# Altium integrated library ON Semi Logic Gate.IntLib: 342 symbols (part 2 of 7)
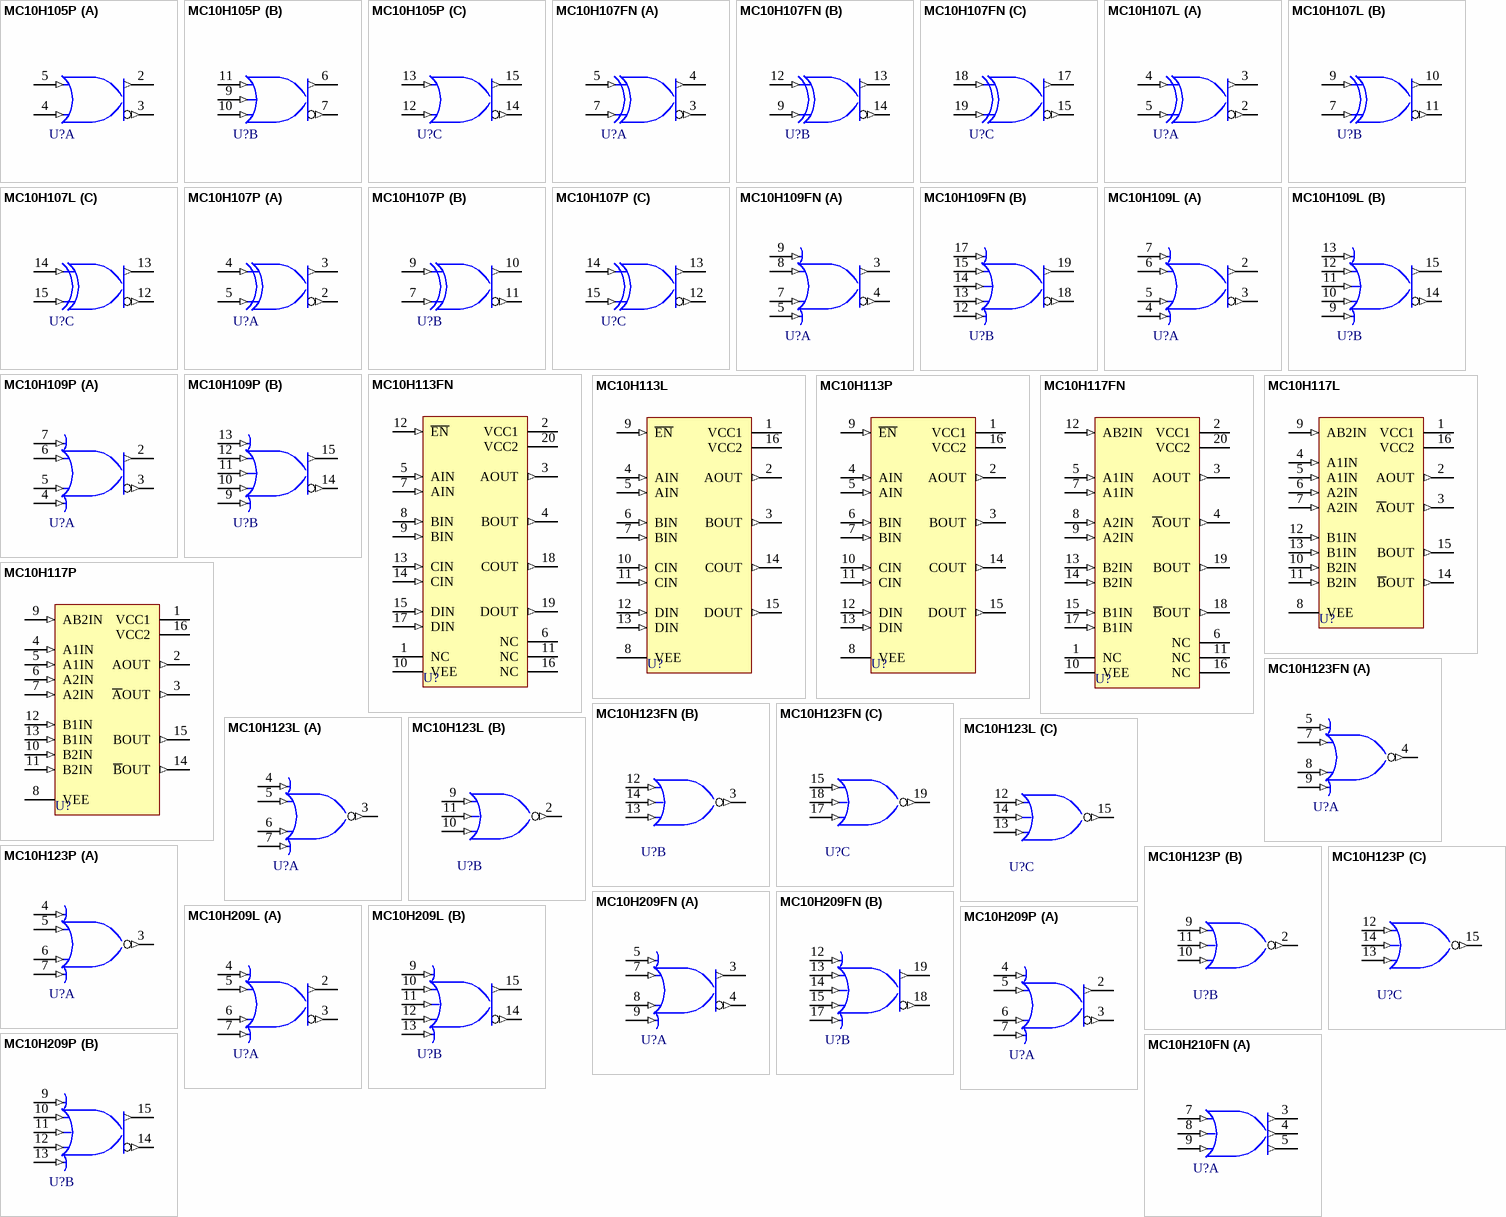
[diagram p27: symbols MC10H105P to MC10H210FN]

## MC10H209P
designator U?
Dual 4-5-Input OR/NOR Gate; Published: 15-Apr-2002; DatasheetVersion: 1996; PackageVersion: Apr-2000; PackageReference: 648-08; Publisher: Altium Limited; PackageDescription: DIP; 16 Leads; Row Spacing 7.62 mm; Pitch 2.54 mm; Code_JEDEC: MS-001-BB; ComponentLink1Description: Manufacturer Link; ComponentLink1URL: http://www.onsemi.com/; ComponentLink2Description: Datasheet; ComponentLink2URL: http://www.onsemi.com/pub/Collateral/MC10H209-D.PDF
footprint 648-08 (DIP; 16 Leads; Row Spacing 7.62 mm; Pitch 2.54 mm)
pins on every part: 1 VCC1 (power) hidden to VCC1, 8 VEE (power) hidden to VEE, 16 VCC2 (power) hidden to VCC2
part A pins: 2 Y (out), 3 ~{Y} (out), 4 A (in), 5 B (in), 6 C (in), 7 D (in)
part B pins: 9 A (in), 10 B (in), 11 C (in), 12 D (in), 13 E (in), 14 ~{Y} (out), 15 Y (out)

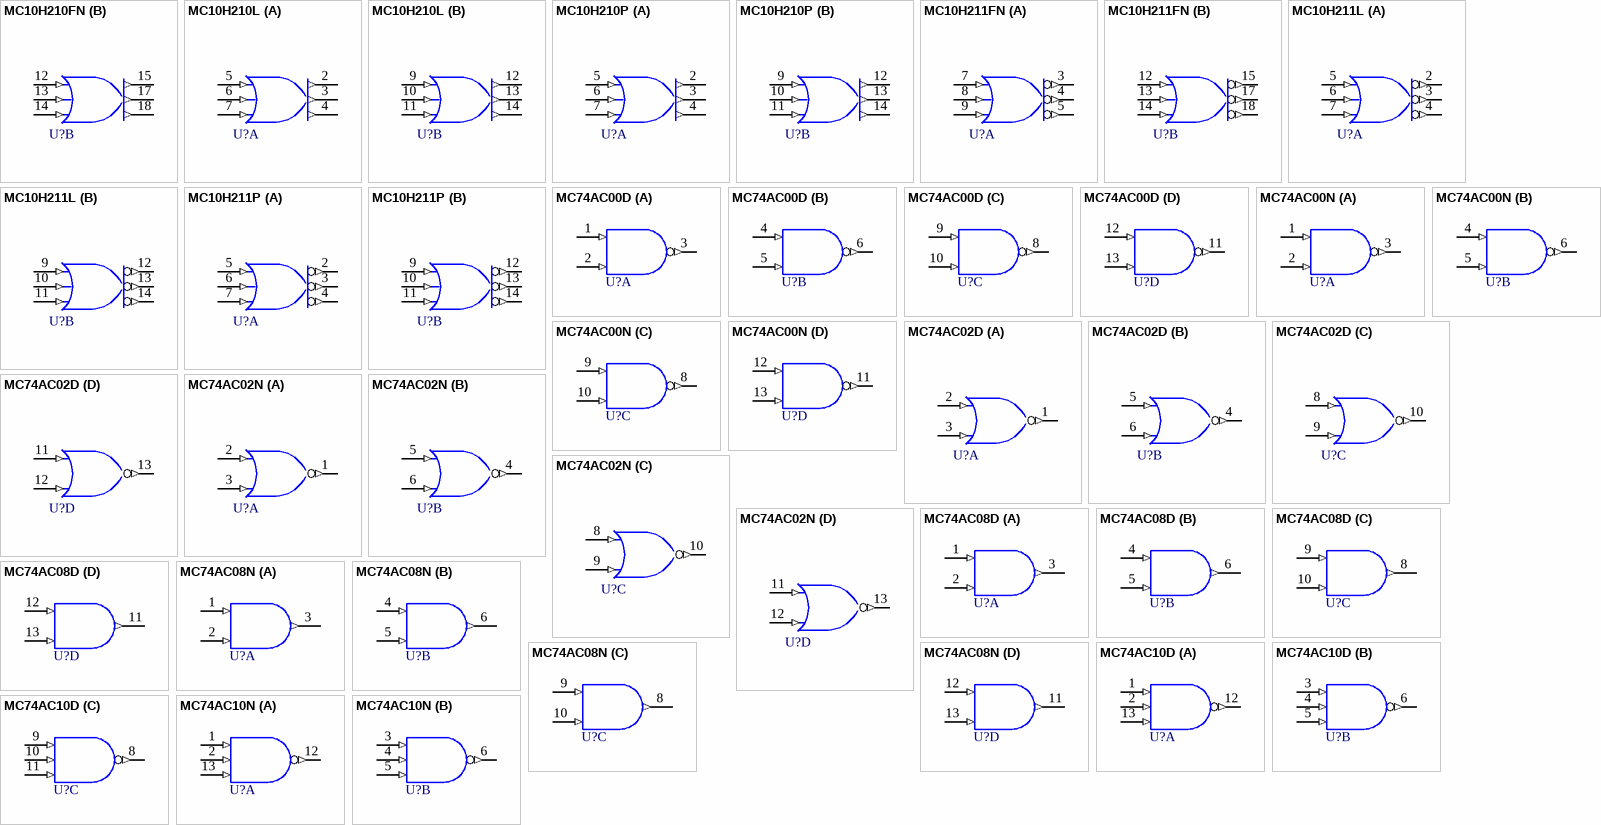
[diagram p3: symbols MC10H210FN to MC74AC10N]

## MC10H210FN
designator U?
Dual 3-Input 3-Output OR Gate; Note: NC Pins are pins 1, 6, 11, 16 and not drawn.; Published: 15-Apr-2002; LatestRevisionDate: 13-Apr-2006; LatestRevisionNote: IPC-7351 Footprint Added.; DatasheetVersion: 1996; PackageVersion: 1996; PackageReference: 775-02; Publisher: Altium Limited; PackageDescription: 20-Pin Leaded Chip Carrier 1.27 mm Pitch; ComponentLink1Description: Manufacturer Link; ComponentLink1URL: http://www.onsemi.com/; ComponentLink2Description: Datasheet; ComponentLink2URL: http://www.onsemi.com/pub/Collateral/MC10H210-D.PDF
footprint 775-02_N (Leaded Chip Carrier, 20-Leads, Body 9x9mm, Pitch 1.27mm, IPC Medium Density)
footprint 775-02_L (Leaded Chip Carrier, 20-Leads, Body 9x9mm, Pitch 1.27mm, IPC High Density)
footprint 775-02_M (Leaded Chip Carrier, 20-Leads, Body 9x9mm, Pitch 1.27mm, IPC Low Density)
pins on every part: 2 VCC1 (power) hidden to VCC1, 10 VEE (power) hidden to VEE, 19 VCC1 (power) hidden to VCC1, 20 VCC2 (power) hidden to VCC2
part A pins: 3 Y (out), 4 Y (out), 5 Y (out), 7 A (in), 8 B (in), 9 C (in)
part B pins: 12 A (in), 13 B (in), 14 C (in), 15 Y (out), 17 Y (out), 18 Y (out)

## MC10H210L
designator U?
Dual 3-Input 3-Output OR Gate; Published: 15-Apr-2002; DatasheetVersion: 1996; PackageVersion: 1996; PackageReference: 620-10; Publisher: Altium Limited; PackageDescription: DIP; 16 Leads; Row Spacing 7.62 mm; Pitch 2.54 mm; ComponentLink1Description: Manufacturer Link; ComponentLink1URL: http://www.onsemi.com/; ComponentLink2Description: Datasheet; ComponentLink2URL: http://www.onsemi.com/pub/Collateral/MC10H210-D.PDF
footprint 620-10 (DIP; 16 Leads; Row Spacing 7.62 mm; Pitch 2.54 mm)
pins on every part: 1 VCC1 (power) hidden to VCC1, 8 VEE (power) hidden to VEE, 15 VCC1 (power) hidden to VCC1, 16 VCC2 (power) hidden to VCC2
part A pins: 2 Y (out), 3 Y (out), 4 Y (out), 5 A (in), 6 B (in), 7 C (in)
part B pins: 9 A (in), 10 B (in), 11 C (in), 12 Y (out), 13 Y (out), 14 Y (out)

## MC10H210P
designator U?
Dual 3-Input 3-Output OR Gate; Published: 15-Apr-2002; DatasheetVersion: 1996; PackageVersion: Apr-2000; PackageReference: 648-08; Publisher: Altium Limited; PackageDescription: DIP; 16 Leads; Row Spacing 7.62 mm; Pitch 2.54 mm; Code_JEDEC: MS-001-BB; ComponentLink1Description: Manufacturer Link; ComponentLink1URL: http://www.onsemi.com/; ComponentLink2Description: Datasheet; ComponentLink2URL: http://www.onsemi.com/pub/Collateral/MC10H210-D.PDF
footprint 648-08 (DIP; 16 Leads; Row Spacing 7.62 mm; Pitch 2.54 mm)
pins on every part: 1 VCC1 (power) hidden to VCC1, 8 VEE (power) hidden to VEE, 15 VCC1 (power) hidden to VCC1, 16 VCC2 (power) hidden to VCC2
part A pins: 2 Y (out), 3 Y (out), 4 Y (out), 5 A (in), 6 B (in), 7 C (in)
part B pins: 9 A (in), 10 B (in), 11 C (in), 12 Y (out), 13 Y (out), 14 Y (out)

## MC10H211FN
designator U?
Dual 3-Input 3-Output NOR Gate; Note: NC Pins are pins 1, 6, 11, 16 and not drawn.; Published: 15-Apr-2002; LatestRevisionDate: 13-Apr-2006; LatestRevisionNote: IPC-7351 Footprint Added.; DatasheetVersion: 1996; PackageVersion: 1996; PackageReference: 775-02; Publisher: Altium Limited; PackageDescription: 20-Pin Leaded Chip Carrier 1.27 mm Pitch; ComponentLink1Description: Manufacturer Link; ComponentLink1URL: http://www.onsemi.com/; ComponentLink2Description: Datasheet; ComponentLink2URL: http://www.onsemi.com/pub/Collateral/MC10H211-D.PDF
footprint 775-02_N (Leaded Chip Carrier, 20-Leads, Body 9x9mm, Pitch 1.27mm, IPC Medium Density)
footprint 775-02_L (Leaded Chip Carrier, 20-Leads, Body 9x9mm, Pitch 1.27mm, IPC High Density)
footprint 775-02_M (Leaded Chip Carrier, 20-Leads, Body 9x9mm, Pitch 1.27mm, IPC Low Density)
pins on every part: 2 VCC1 (power) hidden to VCC1, 10 VEE (power) hidden to VEE, 19 VCC1 (power) hidden to VCC1, 20 VCC2 (power) hidden to VCC2
part A pins: 3 ~{Y} (out), 4 ~{Y} (out), 5 ~{Y} (out), 7 A (in), 8 B (in), 9 C (in)
part B pins: 12 A (in), 13 B (in), 14 C (in), 15 ~{Y} (out), 17 ~{Y} (out), 18 ~{Y} (out)

## MC10H211L
designator U?
Dual 3-Input 3-Output NOR Gate; Published: 15-Apr-2002; DatasheetVersion: 1996; PackageVersion: 1996; PackageReference: 620-10; Publisher: Altium Limited; PackageDescription: DIP; 16 Leads; Row Spacing 7.62 mm; Pitch 2.54 mm; ComponentLink1Description: Manufacturer Link; ComponentLink1URL: http://www.onsemi.com/; ComponentLink2Description: Datasheet; ComponentLink2URL: http://www.onsemi.com/pub/Collateral/MC10H211-D.PDF
footprint 620-10 (DIP; 16 Leads; Row Spacing 7.62 mm; Pitch 2.54 mm)
pins on every part: 1 VCC1 (power) hidden to VCC1, 8 VEE (power) hidden to VEE, 15 VCC1 (power) hidden to VCC1, 16 VCC2 (power) hidden to VCC2
part A pins: 2 ~{Y} (out), 3 ~{Y} (out), 4 ~{Y} (out), 5 A (in), 6 B (in), 7 C (in)
part B pins: 9 A (in), 10 B (in), 11 C (in), 12 ~{Y} (out), 13 ~{Y} (out), 14 ~{Y} (out)

## MC10H211P
designator U?
Dual 3-Input 3-Output NOR Gate; Published: 15-Apr-2002; DatasheetVersion: 1996; PackageVersion: Apr-2000; PackageReference: 648-08; Publisher: Altium Limited; PackageDescription: DIP; 16 Leads; Row Spacing 7.62 mm; Pitch 2.54 mm; Code_JEDEC: MS-001-BB; ComponentLink1Description: Manufacturer Link; ComponentLink1URL: http://www.onsemi.com/; ComponentLink2Description: Datasheet; ComponentLink2URL: http://www.onsemi.com/pub/Collateral/MC10H211-D.PDF
footprint 648-08 (DIP; 16 Leads; Row Spacing 7.62 mm; Pitch 2.54 mm)
pins on every part: 1 VCC1 (power) hidden to VCC1, 8 VEE (power) hidden to VEE, 15 VCC1 (power) hidden to VCC1, 16 VCC2 (power) hidden to VCC2
part A pins: 2 ~{Y} (out), 3 ~{Y} (out), 4 ~{Y} (out), 5 A (in), 6 B (in), 7 C (in)
part B pins: 9 A (in), 10 B (in), 11 C (in), 12 ~{Y} (out), 13 ~{Y} (out), 14 ~{Y} (out)

## MC74AC00D
designator U?
Quad 2-Input NAND Gate; Published: 15-Apr-2002; LatestRevisionDate: 13-Apr-2006; LatestRevisionNote: IPC-7351 Footprint Added.; DatasheetVersion: 9-Apr-1996; PackageReference: 751A-03; Publisher: Altium Limited; PackageDescription: 14-Pin Small Outline Integrated Circuit 1.27 mm Pitch; Code_JEDEC: MS-012-AB; Code_IPC: SOIC127P600-14; ComponentLink1Description: Manufacturer Link; ComponentLink1URL: http://www.onsemi.com/; ComponentLink2Description: Datasheet; ComponentLink2URL: http://www.onsemi.com/pub/Collateral/MC74AC00-D.PDF
footprint 751A-03_N (SOIC, 14-Leads, Body 8.7x3.9mm, Pitch 1.27mm, IPC Medium Density)
footprint 751A-03_L (SOIC, 14-Leads, Body 8.7x3.9mm, Pitch 1.27mm, IPC High Density)
footprint 751A-03_M (SOIC, 14-Leads, Body 8.7x3.9mm, Pitch 1.27mm, IPC Low Density)
signal-integrity model MC74AC00D
pins on every part: 7 GND (power) hidden to GND, 14 VCC (power) hidden to VCC
part A pins: 1 A (in), 2 B (in), 3 ~{Y} (out)
part B pins: 4 A (in), 5 B (in), 6 ~{Y} (out)
part C pins: 8 ~{Y} (out), 9 A (in), 10 B (in)
part D pins: 11 ~{Y} (out), 12 A (in), 13 B (in)

## MC74AC00N
designator U?
Quad 2-Input NAND Gate; Published: 15-Apr-2002; DatasheetVersion: 9-Apr-1996; PackageVersion: 1995; PackageReference: 646-06; Publisher: Altium Limited; PackageDescription: DIP; 14 Leads; Row Spacing 7.62 mm; Pitch 2.54 mm; ComponentLink1Description: Manufacturer Link; ComponentLink1URL: http://www.onsemi.com/; ComponentLink2Description: Datasheet; ComponentLink2URL: http://www.onsemi.com/pub/Collateral/MC74AC00-D.PDF
footprint 646-06 (DIP; 14 Leads; Row Spacing 7.62 mm; Pitch 2.54 mm)
signal-integrity model MC74AC00N
pins on every part: 7 GND (power) hidden to GND, 14 VCC (power) hidden to VCC
part A pins: 1 A (in), 2 B (in), 3 ~{Y} (out)
part B pins: 4 A (in), 5 B (in), 6 ~{Y} (out)
part C pins: 8 ~{Y} (out), 9 A (in), 10 B (in)
part D pins: 11 ~{Y} (out), 12 A (in), 13 B (in)

## MC74AC02D
designator U?
Quad 2-Input NOR Gate; Published: 15-Apr-2002; LatestRevisionDate: 13-Apr-2006; LatestRevisionNote: IPC-7351 Footprint Added.; DatasheetVersion: 9-Apr-1996; PackageReference: 751A-03; Publisher: Altium Limited; PackageDescription: 14-Pin Small Outline Integrated Circuit 1.27 mm Pitch; Code_JEDEC: MS-012-AB; Code_IPC: SOIC127P600-14; ComponentLink1Description: Manufacturer Link; ComponentLink1URL: http://www.onsemi.com/; ComponentLink2Description: Datasheet; ComponentLink2URL: http://www.onsemi.com/pub/Collateral/MC74AC02-D.PDF
footprint 751A-03_N (SOIC, 14-Leads, Body 8.7x3.9mm, Pitch 1.27mm, IPC Medium Density)
footprint 751A-03_L (SOIC, 14-Leads, Body 8.7x3.9mm, Pitch 1.27mm, IPC High Density)
footprint 751A-03_M (SOIC, 14-Leads, Body 8.7x3.9mm, Pitch 1.27mm, IPC Low Density)
signal-integrity model MC74AC02D
pins on every part: 7 GND (power) hidden to GND, 14 VCC (power) hidden to VCC
part A pins: 1 ~{Y} (out), 2 A (in), 3 B (in)
part B pins: 4 ~{Y} (out), 5 A (in), 6 B (in)
part C pins: 8 A (in), 9 B (in), 10 ~{Y} (out)
part D pins: 11 A (in), 12 B (in), 13 ~{Y} (out)

## MC74AC02N
designator U?
Quad 2-Input NOR Gate; Published: 15-Apr-2002; DatasheetVersion: 9-Apr-1996; PackageVersion: 1995; PackageReference: 646-06; Publisher: Altium Limited; PackageDescription: DIP; 14 Leads; Row Spacing 7.62 mm; Pitch 2.54 mm; ComponentLink1Description: Manufacturer Link; ComponentLink1URL: http://www.onsemi.com/; ComponentLink2Description: Datasheet; ComponentLink2URL: http://www.onsemi.com/pub/Collateral/MC74AC02-D.PDF
footprint 646-06 (DIP; 14 Leads; Row Spacing 7.62 mm; Pitch 2.54 mm)
signal-integrity model MC74AC02N
pins on every part: 7 GND (power) hidden to GND, 14 VCC (power) hidden to VCC
part A pins: 1 ~{Y} (out), 2 A (in), 3 B (in)
part B pins: 4 ~{Y} (out), 5 A (in), 6 B (in)
part C pins: 8 A (in), 9 B (in), 10 ~{Y} (out)
part D pins: 11 A (in), 12 B (in), 13 ~{Y} (out)

## MC74AC08D
designator U?
Quad 2-Input AND Gate; Published: 15-Apr-2002; LatestRevisionDate: 13-Apr-2006; LatestRevisionNote: IPC-7351 Footprint Added.; DatasheetVersion: 9-Apr-1996; PackageReference: 751A-03; Publisher: Altium Limited; PackageDescription: 14-Pin Small Outline Integrated Circuit 1.27 mm Pitch; Code_JEDEC: MS-012-AB; Code_IPC: SOIC127P600-14; ComponentLink1Description: Manufacturer Link; ComponentLink1URL: http://www.onsemi.com/; ComponentLink2Description: Datasheet; ComponentLink2URL: http://www.onsemi.com/pub/Collateral/MC74AC08-D.PDF
footprint 751A-03_N (SOIC, 14-Leads, Body 8.7x3.9mm, Pitch 1.27mm, IPC Medium Density)
footprint 751A-03_L (SOIC, 14-Leads, Body 8.7x3.9mm, Pitch 1.27mm, IPC High Density)
footprint 751A-03_M (SOIC, 14-Leads, Body 8.7x3.9mm, Pitch 1.27mm, IPC Low Density)
signal-integrity model MC74AC08D
pins on every part: 7 GND (power) hidden to GND, 14 VDD (power) hidden to VDD
part A pins: 1 A (in), 2 B (in), 3 Y (out)
part B pins: 4 A (in), 5 B (in), 6 Y (out)
part C pins: 8 Y (out), 9 A (in), 10 B (in)
part D pins: 11 Y (out), 12 A (in), 13 B (in)

## MC74AC08N
designator U?
Quad 2-Input AND Gate; Published: 15-Apr-2002; DatasheetVersion: 9-Apr-1996; PackageVersion: 1995; PackageReference: 646-06; Publisher: Altium Limited; PackageDescription: DIP; 14 Leads; Row Spacing 7.62 mm; Pitch 2.54 mm; ComponentLink1Description: Manufacturer Link; ComponentLink1URL: http://www.onsemi.com/; ComponentLink2Description: Datasheet; ComponentLink2URL: http://www.onsemi.com/pub/Collateral/MC74AC08-D.PDF
footprint 646-06 (DIP; 14 Leads; Row Spacing 7.62 mm; Pitch 2.54 mm)
signal-integrity model MC74AC08N
pins on every part: 7 GND (power) hidden to GND, 14 VDD (power) hidden to VDD
part A pins: 1 A (in), 2 B (in), 3 Y (out)
part B pins: 4 A (in), 5 B (in), 6 Y (out)
part C pins: 8 Y (out), 9 A (in), 10 B (in)
part D pins: 11 Y (out), 12 A (in), 13 B (in)

## MC74AC10D
designator U?
Triple 3-Input NAND Gate; Published: 15-Apr-2002; LatestRevisionDate: 13-Apr-2006; LatestRevisionNote: IPC-7351 Footprint Added.; DatasheetVersion: 9-Apr-1996; PackageReference: 751A-03; Publisher: Altium Limited; PackageDescription: 14-Pin Small Outline Integrated Circuit 1.27 mm Pitch; Code_JEDEC: MS-012-AB; Code_IPC: SOIC127P600-14; ComponentLink1Description: Manufacturer Link; ComponentLink1URL: http://www.onsemi.com/; ComponentLink2Description: Datasheet; ComponentLink2URL: http://www.onsemi.com/pub/Collateral/MC74AC10-D.PDF
footprint 751A-03_N (SOIC, 14-Leads, Body 8.7x3.9mm, Pitch 1.27mm, IPC Medium Density)
footprint 751A-03_L (SOIC, 14-Leads, Body 8.7x3.9mm, Pitch 1.27mm, IPC High Density)
footprint 751A-03_M (SOIC, 14-Leads, Body 8.7x3.9mm, Pitch 1.27mm, IPC Low Density)
signal-integrity model MC74AC10D
pins on every part: 7 GND (power) hidden to GND, 14 VDD (power) hidden to VDD
part A pins: 1 A (in), 2 B (in), 12 Y (out), 13 C (in)
part B pins: 3 A (in), 4 B (in), 5 C (in), 6 Y (out)
part C pins: 8 Y (out), 9 A (in), 10 B (in), 11 C (in)

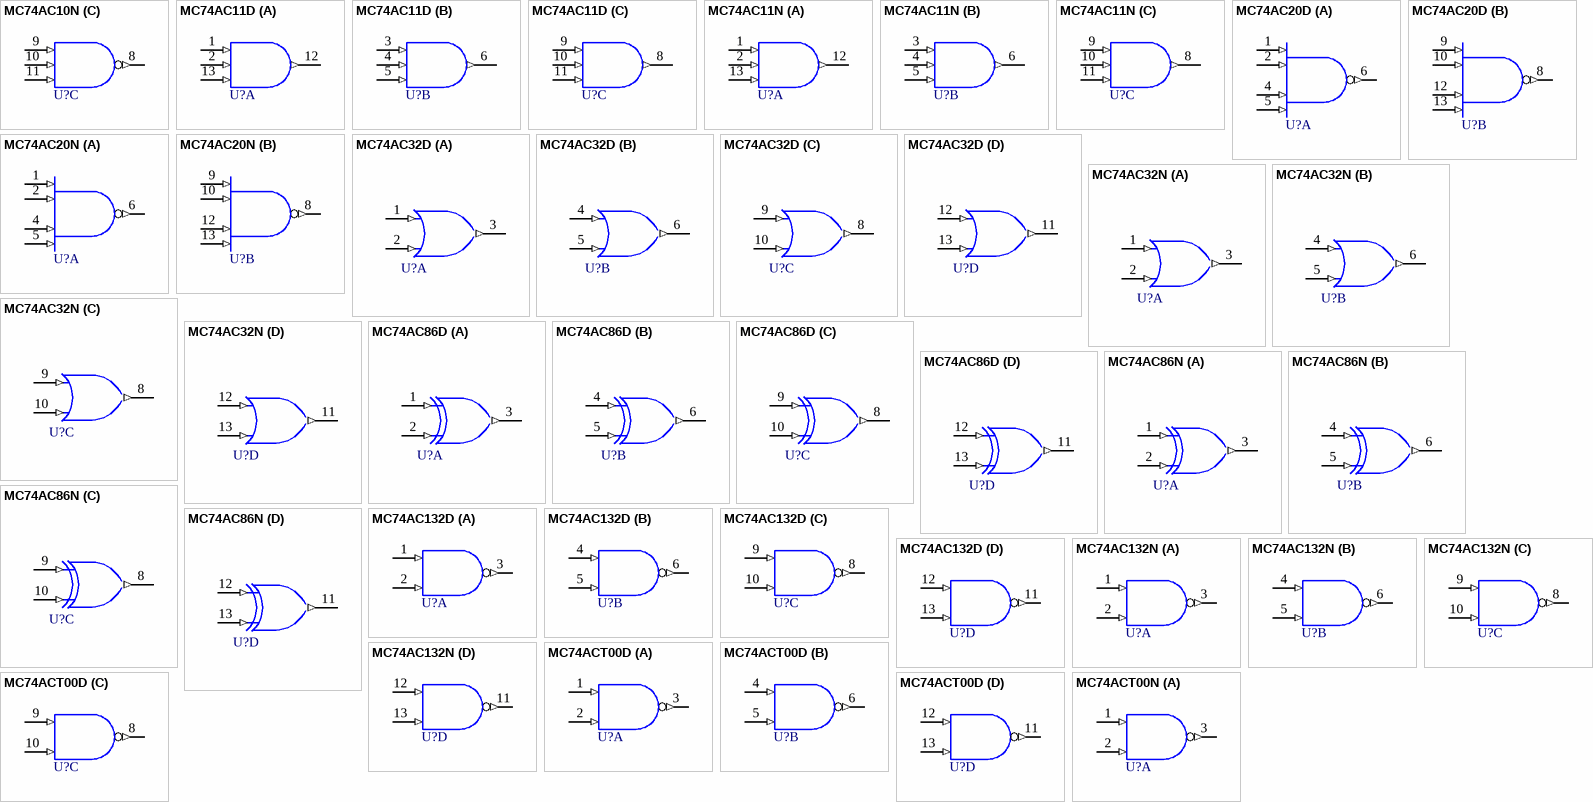
[diagram p4: symbols MC74AC10N to MC74ACT00N]

## MC74AC10N
designator U?
Triple 3-Input NAND Gate; Published: 15-Apr-2002; DatasheetVersion: 9-Apr-1996; PackageVersion: 1995; PackageReference: 646-06; Publisher: Altium Limited; PackageDescription: DIP; 14 Leads; Row Spacing 7.62 mm; Pitch 2.54 mm; ComponentLink1Description: Manufacturer Link; ComponentLink1URL: http://www.onsemi.com/; ComponentLink2Description: Datasheet; ComponentLink2URL: http://www.onsemi.com/pub/Collateral/MC74AC10-D.PDF
footprint 646-06 (DIP; 14 Leads; Row Spacing 7.62 mm; Pitch 2.54 mm)
signal-integrity model MC74AC10N
pins on every part: 7 GND (power) hidden to GND, 14 VDD (power) hidden to VDD
part A pins: 1 A (in), 2 B (in), 12 Y (out), 13 C (in)
part B pins: 3 A (in), 4 B (in), 5 C (in), 6 Y (out)
part C pins: 8 Y (out), 9 A (in), 10 B (in), 11 C (in)

## MC74AC11D
designator U?
Triple 3-Input AND Gate; Published: 15-Apr-2002; LatestRevisionDate: 13-Apr-2006; LatestRevisionNote: IPC-7351 Footprint Added.; DatasheetVersion: 9-Apr-1996; PackageReference: 751A-03; Publisher: Altium Limited; PackageDescription: 14-Pin Small Outline Integrated Circuit 1.27 mm Pitch; Code_JEDEC: MS-012-AB; Code_IPC: SOIC127P600-14; ComponentLink1Description: Manufacturer Link; ComponentLink1URL: http://www.onsemi.com/; ComponentLink2Description: Datasheet; ComponentLink2URL: http://www.onsemi.com/pub/Collateral/MC74AC11-D.PDF
footprint 751A-03_N (SOIC, 14-Leads, Body 8.7x3.9mm, Pitch 1.27mm, IPC Medium Density)
footprint 751A-03_L (SOIC, 14-Leads, Body 8.7x3.9mm, Pitch 1.27mm, IPC High Density)
footprint 751A-03_M (SOIC, 14-Leads, Body 8.7x3.9mm, Pitch 1.27mm, IPC Low Density)
signal-integrity model MC74AC11D
pins on every part: 7 GND (power) hidden to GND, 14 VDD (power) hidden to VDD
part A pins: 1 A (in), 2 B (in), 12 Y (out), 13 C (in)
part B pins: 3 A (in), 4 B (in), 5 C (in), 6 Y (out)
part C pins: 8 Y (out), 9 A (in), 10 B (in), 11 C (in)

## MC74AC11N
designator U?
Triple 3-Input AND Gate; Published: 15-Apr-2002; DatasheetVersion: 9-Apr-1996; PackageVersion: 1995; PackageReference: 646-06; Publisher: Altium Limited; PackageDescription: DIP; 14 Leads; Row Spacing 7.62 mm; Pitch 2.54 mm; ComponentLink1Description: Manufacturer Link; ComponentLink1URL: http://www.onsemi.com/; ComponentLink2Description: Datasheet; ComponentLink2URL: http://www.onsemi.com/pub/Collateral/MC74AC11-D.PDF
footprint 646-06 (DIP; 14 Leads; Row Spacing 7.62 mm; Pitch 2.54 mm)
signal-integrity model MC74AC11N
pins on every part: 7 GND (power) hidden to GND, 14 VDD (power) hidden to VDD
part A pins: 1 A (in), 2 B (in), 12 Y (out), 13 C (in)
part B pins: 3 A (in), 4 B (in), 5 C (in), 6 Y (out)
part C pins: 8 Y (out), 9 A (in), 10 B (in), 11 C (in)

## MC74AC20D
designator U?
Dual 4-Input NAND Gate; Published: 15-Apr-2002; LatestRevisionDate: 13-Apr-2006; LatestRevisionNote: IPC-7351 Footprint Added.; DatasheetVersion: 9-Apr-1996; PackageReference: 751A-03; Publisher: Altium Limited; PackageDescription: 14-Pin Small Outline Integrated Circuit 1.27 mm Pitch; Code_JEDEC: MS-012-AB; Code_IPC: SOIC127P600-14; ComponentLink1Description: Manufacturer Link; ComponentLink1URL: http://www.onsemi.com/; ComponentLink2Description: Datasheet; ComponentLink2URL: http://www.onsemi.com/pub/Collateral/MC74AC20-D.PDF
footprint 751A-03_N (SOIC, 14-Leads, Body 8.7x3.9mm, Pitch 1.27mm, IPC Medium Density)
footprint 751A-03_L (SOIC, 14-Leads, Body 8.7x3.9mm, Pitch 1.27mm, IPC High Density)
footprint 751A-03_M (SOIC, 14-Leads, Body 8.7x3.9mm, Pitch 1.27mm, IPC Low Density)
signal-integrity model MC74AC20D
pins on every part: 7 GND (power) hidden to GND, 14 VDD (power) hidden to VDD
part A pins: 1 A (in), 2 B (in), 4 C (in), 5 D (in), 6 Y (out)
part B pins: 8 Y (out), 9 A (in), 10 B (in), 12 C (in), 13 D (in)

## MC74AC20N
designator U?
Dual 4-Input NAND Gate; Published: 15-Apr-2002; DatasheetVersion: 9-Apr-1996; PackageVersion: 1995; PackageReference: 646-06; Publisher: Altium Limited; PackageDescription: DIP; 14 Leads; Row Spacing 7.62 mm; Pitch 2.54 mm; ComponentLink1Description: Manufacturer Link; ComponentLink1URL: http://www.onsemi.com/; ComponentLink2Description: Datasheet; ComponentLink2URL: http://www.onsemi.com/pub/Collateral/MC74AC20-D.PDF
footprint 646-06 (DIP; 14 Leads; Row Spacing 7.62 mm; Pitch 2.54 mm)
signal-integrity model MC74AC20N
pins on every part: 7 GND (power) hidden to GND, 14 VDD (power) hidden to VDD
part A pins: 1 A (in), 2 B (in), 4 C (in), 5 D (in), 6 Y (out)
part B pins: 8 Y (out), 9 A (in), 10 B (in), 12 C (in), 13 D (in)

## MC74AC32D
designator U?
Quad 2-Input OR Gate; Published: 15-Apr-2002; LatestRevisionDate: 13-Apr-2006; LatestRevisionNote: IPC-7351 Footprint Added.; DatasheetVersion: 9-Apr-1996; PackageReference: 751A-03; Publisher: Altium Limited; PackageDescription: 14-Pin Small Outline Integrated Circuit 1.27 mm Pitch; Code_JEDEC: MS-012-AB; Code_IPC: SOIC127P600-14; ComponentLink1Description: Manufacturer Link; ComponentLink1URL: http://www.onsemi.com/; ComponentLink2Description: Datasheet; ComponentLink2URL: http://www.onsemi.com/pub/Collateral/MC74AC32-D.PDF
footprint 751A-03_N (SOIC, 14-Leads, Body 8.7x3.9mm, Pitch 1.27mm, IPC Medium Density)
footprint 751A-03_L (SOIC, 14-Leads, Body 8.7x3.9mm, Pitch 1.27mm, IPC High Density)
footprint 751A-03_M (SOIC, 14-Leads, Body 8.7x3.9mm, Pitch 1.27mm, IPC Low Density)
signal-integrity model MC74AC32D
pins on every part: 7 GND (power) hidden to GND, 14 VDD (power) hidden to VDD
part A pins: 1 A (in), 2 B (in), 3 Y (out)
part B pins: 4 A (in), 5 B (in), 6 Y (out)
part C pins: 8 Y (out), 9 A (in), 10 B (in)
part D pins: 11 Y (out), 12 A (in), 13 B (in)

## MC74AC32N
designator U?
Quad 2-Input OR Gate; Published: 15-Apr-2002; DatasheetVersion: 9-Apr-1996; PackageVersion: 1995; PackageReference: 646-06; Publisher: Altium Limited; PackageDescription: DIP; 14 Leads; Row Spacing 7.62 mm; Pitch 2.54 mm; ComponentLink1Description: Manufacturer Link; ComponentLink1URL: http://www.onsemi.com/; ComponentLink2Description: Datasheet; ComponentLink2URL: http://www.onsemi.com/pub/Collateral/MC74AC32-D.PDF
footprint 646-06 (DIP; 14 Leads; Row Spacing 7.62 mm; Pitch 2.54 mm)
signal-integrity model MC74AC32N
pins on every part: 7 GND (power) hidden to GND, 14 VDD (power) hidden to VDD
part A pins: 1 A (in), 2 B (in), 3 Y (out)
part B pins: 4 A (in), 5 B (in), 6 Y (out)
part C pins: 8 Y (out), 9 A (in), 10 B (in)
part D pins: 11 Y (out), 12 A (in), 13 B (in)

## MC74AC86D
designator U?
Quad 2-Input XOR Gate; Published: 15-Apr-2002; LatestRevisionDate: 13-Apr-2006; LatestRevisionNote: IPC-7351 Footprint Added.; DatasheetVersion: 9-Apr-1996; PackageReference: 751A-03; Publisher: Altium Limited; PackageDescription: 14-Pin Small Outline Integrated Circuit 1.27 mm Pitch; Code_JEDEC: MS-012-AB; Code_IPC: SOIC127P600-14; ComponentLink1Description: Manufacturer Link; ComponentLink1URL: http://www.onsemi.com/; ComponentLink2Description: Datasheet; ComponentLink2URL: http://www.onsemi.com/pub/Collateral/MC74AC86-D.PDF
footprint 751A-03_N (SOIC, 14-Leads, Body 8.7x3.9mm, Pitch 1.27mm, IPC Medium Density)
footprint 751A-03_L (SOIC, 14-Leads, Body 8.7x3.9mm, Pitch 1.27mm, IPC High Density)
footprint 751A-03_M (SOIC, 14-Leads, Body 8.7x3.9mm, Pitch 1.27mm, IPC Low Density)
signal-integrity model MC74AC86D
pins on every part: 7 GND (power) hidden to GND, 14 VDD (power) hidden to VDD
part A pins: 1 A (in), 2 B (in), 3 Y (out)
part B pins: 4 A (in), 5 B (in), 6 Y (out)
part C pins: 8 Y (out), 9 A (in), 10 B (in)
part D pins: 11 Y (out), 12 A (in), 13 B (in)

## MC74AC86N
designator U?
Quad 2-Input XOR Gate; Published: 15-Apr-2002; DatasheetVersion: 9-Apr-1996; PackageVersion: 1995; PackageReference: 646-06; Publisher: Altium Limited; PackageDescription: DIP; 14 Leads; Row Spacing 7.62 mm; Pitch 2.54 mm; ComponentLink1Description: Manufacturer Link; ComponentLink1URL: http://www.onsemi.com/; ComponentLink2Description: Datasheet; ComponentLink2URL: http://www.onsemi.com/pub/Collateral/MC74AC86-D.PDF
footprint 646-06 (DIP; 14 Leads; Row Spacing 7.62 mm; Pitch 2.54 mm)
signal-integrity model MC74AC86N
pins on every part: 7 GND (power) hidden to GND, 14 VDD (power) hidden to VDD
part A pins: 1 A (in), 2 B (in), 3 Y (out)
part B pins: 4 A (in), 5 B (in), 6 Y (out)
part C pins: 8 Y (out), 9 A (in), 10 B (in)
part D pins: 11 Y (out), 12 A (in), 13 B (in)

## MC74AC132D
designator U?
Quad 2-Input NAND Schmitt Trigger; Published: 15-Apr-2002; LatestRevisionDate: 13-Apr-2006; LatestRevisionNote: IPC-7351 Footprint Added.; DatasheetVersion: 9-Apr-1996; PackageReference: 751A-03; Publisher: Altium Limited; PackageDescription: 14-Pin Small Outline Integrated Circuit 1.27 mm Pitch; Code_JEDEC: MS-012-AB; Code_IPC: SOIC127P600-14; ComponentLink1Description: Manufacturer Link; ComponentLink1URL: http://www.onsemi.com/; ComponentLink2Description: Datasheet; ComponentLink2URL: http://www.onsemi.com/pub/Collateral/MC74AC132-D.PDF
footprint 751A-03_N (SOIC, 14-Leads, Body 8.7x3.9mm, Pitch 1.27mm, IPC Medium Density)
footprint 751A-03_L (SOIC, 14-Leads, Body 8.7x3.9mm, Pitch 1.27mm, IPC High Density)
footprint 751A-03_M (SOIC, 14-Leads, Body 8.7x3.9mm, Pitch 1.27mm, IPC Low Density)
signal-integrity model MC74AC132D
pins on every part: 7 GND (power) hidden to GND, 14 VDD (power) hidden to VDD
part A pins: 1 A (in), 2 B (in), 3 Y (out)
part B pins: 4 A (in), 5 B (in), 6 Y (out)
part C pins: 8 Y (out), 9 A (in), 10 B (in)
part D pins: 11 Y (out), 12 A (in), 13 B (in)

## MC74AC132N
designator U?
Quad 2-Input NAND Schmitt Trigger; Published: 15-Apr-2002; DatasheetVersion: 9-Apr-1996; PackageVersion: 1995; PackageReference: 646-06; Publisher: Altium Limited; PackageDescription: DIP; 14 Leads; Row Spacing 7.62 mm; Pitch 2.54 mm; ComponentLink1Description: Manufacturer Link; ComponentLink1URL: http://www.onsemi.com/; ComponentLink2Description: Datasheet; ComponentLink2URL: http://www.onsemi.com/pub/Collateral/MC74AC132-D.PDF
footprint 646-06 (DIP; 14 Leads; Row Spacing 7.62 mm; Pitch 2.54 mm)
signal-integrity model MC74AC132N
pins on every part: 7 GND (power) hidden to GND, 14 VDD (power) hidden to VDD
part A pins: 1 A (in), 2 B (in), 3 Y (out)
part B pins: 4 A (in), 5 B (in), 6 Y (out)
part C pins: 8 Y (out), 9 A (in), 10 B (in)
part D pins: 11 Y (out), 12 A (in), 13 B (in)

## MC74ACT00D
designator U?
Quad 2-Input NAND Gate; Published: 15-Apr-2002; LatestRevisionDate: 13-Apr-2006; LatestRevisionNote: IPC-7351 Footprint Added.; DatasheetVersion: 9-Apr-1996; PackageReference: 751A-03; Publisher: Altium Limited; PackageDescription: 14-Pin Small Outline Integrated Circuit 1.27 mm Pitch; Code_JEDEC: MS-012-AB; Code_IPC: SOIC127P600-14; ComponentLink1Description: Manufacturer Link; ComponentLink1URL: http://www.onsemi.com/; ComponentLink2Description: Datasheet; ComponentLink2URL: http://www.onsemi.com/pub/Collateral/MC74AC00-D.PDF
footprint 751A-03_N (SOIC, 14-Leads, Body 8.7x3.9mm, Pitch 1.27mm, IPC Medium Density)
footprint 751A-03_L (SOIC, 14-Leads, Body 8.7x3.9mm, Pitch 1.27mm, IPC High Density)
footprint 751A-03_M (SOIC, 14-Leads, Body 8.7x3.9mm, Pitch 1.27mm, IPC Low Density)
signal-integrity model MC74ACT00D
pins on every part: 7 GND (power) hidden to GND, 14 VCC (power) hidden to VCC
part A pins: 1 A (in), 2 B (in), 3 ~{Y} (out)
part B pins: 4 A (in), 5 B (in), 6 ~{Y} (out)
part C pins: 8 ~{Y} (out), 9 A (in), 10 B (in)
part D pins: 11 ~{Y} (out), 12 A (in), 13 B (in)

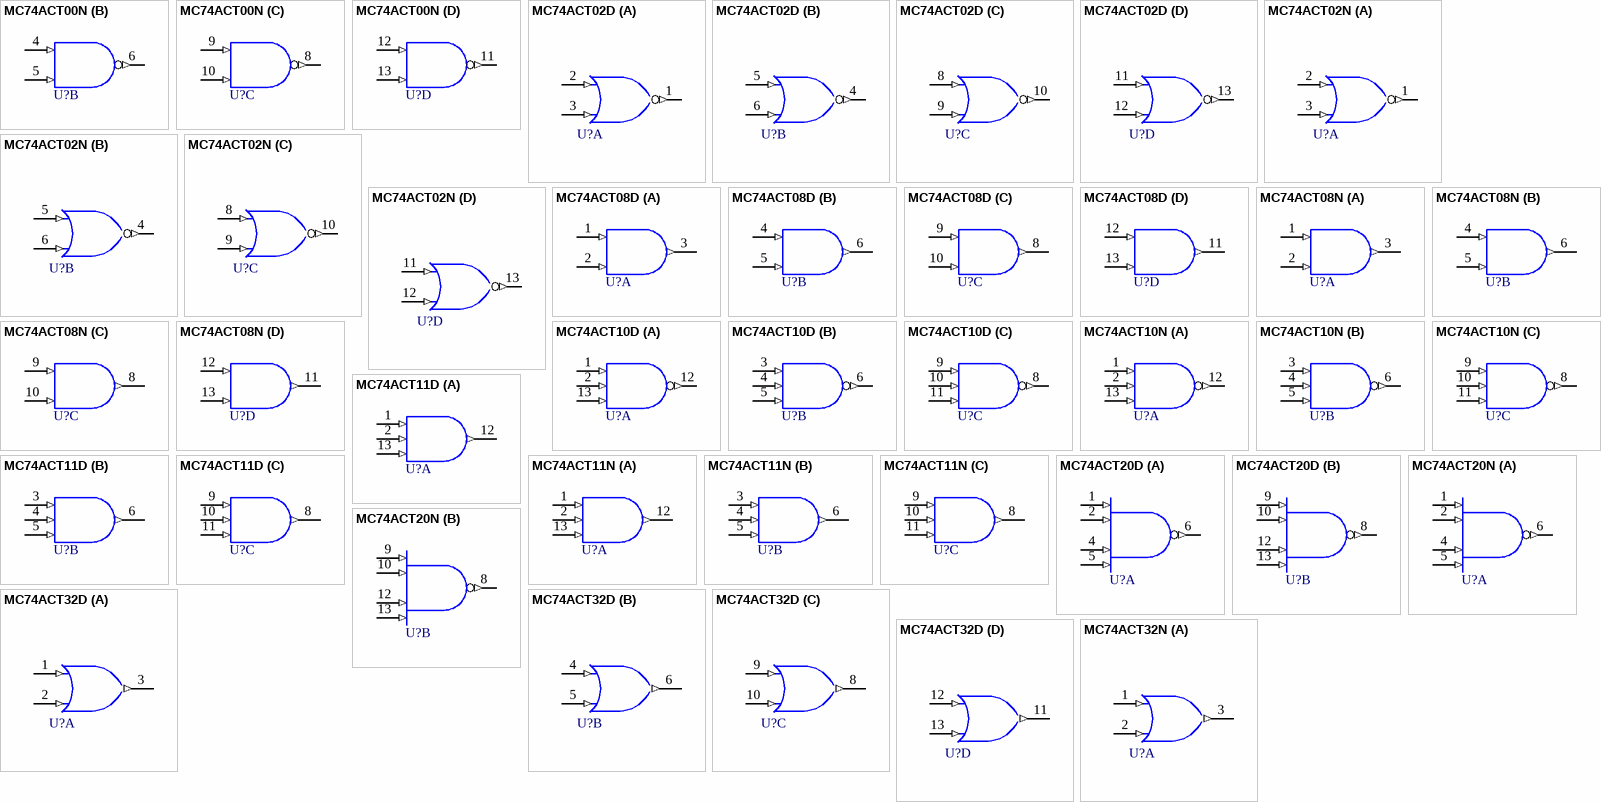
[diagram p5: symbols MC74ACT00N to MC74ACT32N]

## MC74ACT00N
designator U?
Quad 2-Input NAND Gate; Published: 15-Apr-2002; DatasheetVersion: 9-Apr-1996; PackageVersion: 1995; PackageReference: 646-06; Publisher: Altium Limited; PackageDescription: DIP; 14 Leads; Row Spacing 7.62 mm; Pitch 2.54 mm; ComponentLink1Description: Manufacturer Link; ComponentLink1URL: http://www.onsemi.com/; ComponentLink2Description: Datasheet; ComponentLink2URL: http://www.onsemi.com/pub/Collateral/MC74AC00-D.PDF
footprint 646-06 (DIP; 14 Leads; Row Spacing 7.62 mm; Pitch 2.54 mm)
signal-integrity model MC74ACT00N
pins on every part: 7 GND (power) hidden to GND, 14 VCC (power) hidden to VCC
part A pins: 1 A (in), 2 B (in), 3 ~{Y} (out)
part B pins: 4 A (in), 5 B (in), 6 ~{Y} (out)
part C pins: 8 ~{Y} (out), 9 A (in), 10 B (in)
part D pins: 11 ~{Y} (out), 12 A (in), 13 B (in)

## MC74ACT02D
designator U?
Quad 2-Input NOR Gate; Published: 15-Apr-2002; LatestRevisionDate: 13-Apr-2006; LatestRevisionNote: IPC-7351 Footprint Added.; DatasheetVersion: 9-Apr-1996; PackageReference: 751A-03; Publisher: Altium Limited; PackageDescription: 14-Pin Small Outline Integrated Circuit 1.27 mm Pitch; Code_JEDEC: MS-012-AB; Code_IPC: SOIC127P600-14; ComponentLink1Description: Manufacturer Link; ComponentLink1URL: http://www.onsemi.com/; ComponentLink2Description: Datasheet; ComponentLink2URL: http://www.onsemi.com/pub/Collateral/MC74AC02-D.PDF
footprint 751A-03_N (SOIC, 14-Leads, Body 8.7x3.9mm, Pitch 1.27mm, IPC Medium Density)
footprint 751A-03_L (SOIC, 14-Leads, Body 8.7x3.9mm, Pitch 1.27mm, IPC High Density)
footprint 751A-03_M (SOIC, 14-Leads, Body 8.7x3.9mm, Pitch 1.27mm, IPC Low Density)
signal-integrity model MC74ACT02D
pins on every part: 7 GND (power) hidden to GND, 14 VCC (power) hidden to VCC
part A pins: 1 ~{Y} (out), 2 A (in), 3 B (in)
part B pins: 4 ~{Y} (out), 5 A (in), 6 B (in)
part C pins: 8 A (in), 9 B (in), 10 ~{Y} (out)
part D pins: 11 A (in), 12 B (in), 13 ~{Y} (out)

## MC74ACT02N
designator U?
Quad 2-Input NOR Gate; Published: 15-Apr-2002; DatasheetVersion: 9-Apr-1996; PackageVersion: 1995; PackageReference: 646-06; Publisher: Altium Limited; PackageDescription: DIP; 14 Leads; Row Spacing 7.62 mm; Pitch 2.54 mm; ComponentLink1Description: Manufacturer Link; ComponentLink1URL: http://www.onsemi.com/; ComponentLink2Description: Datasheet; ComponentLink2URL: http://www.onsemi.com/pub/Collateral/MC74AC02-D.PDF
footprint 646-06 (DIP; 14 Leads; Row Spacing 7.62 mm; Pitch 2.54 mm)
signal-integrity model MC74ACT02N
pins on every part: 7 GND (power) hidden to GND, 14 VCC (power) hidden to VCC
part A pins: 1 ~{Y} (out), 2 A (in), 3 B (in)
part B pins: 4 ~{Y} (out), 5 A (in), 6 B (in)
part C pins: 8 A (in), 9 B (in), 10 ~{Y} (out)
part D pins: 11 A (in), 12 B (in), 13 ~{Y} (out)

## MC74ACT08D
designator U?
Quad 2-Input AND Gate; Published: 15-Apr-2002; LatestRevisionDate: 13-Apr-2006; LatestRevisionNote: IPC-7351 Footprint Added.; DatasheetVersion: 9-Apr-1996; PackageReference: 751A-03; Publisher: Altium Limited; PackageDescription: 14-Pin Small Outline Integrated Circuit 1.27 mm Pitch; Code_JEDEC: MS-012-AB; Code_IPC: SOIC127P600-14; ComponentLink1Description: Manufacturer Link; ComponentLink1URL: http://www.onsemi.com/; ComponentLink2Description: Datasheet; ComponentLink2URL: http://www.onsemi.com/pub/Collateral/MC74AC08-D.PDF
footprint 751A-03_N (SOIC, 14-Leads, Body 8.7x3.9mm, Pitch 1.27mm, IPC Medium Density)
footprint 751A-03_L (SOIC, 14-Leads, Body 8.7x3.9mm, Pitch 1.27mm, IPC High Density)
footprint 751A-03_M (SOIC, 14-Leads, Body 8.7x3.9mm, Pitch 1.27mm, IPC Low Density)
signal-integrity model MC74ACT08D
pins on every part: 7 GND (power) hidden to GND, 14 VDD (power) hidden to VDD
part A pins: 1 A (in), 2 B (in), 3 Y (out)
part B pins: 4 A (in), 5 B (in), 6 Y (out)
part C pins: 8 Y (out), 9 A (in), 10 B (in)
part D pins: 11 Y (out), 12 A (in), 13 B (in)

## MC74ACT08N
designator U?
Quad 2-Input AND Gate; Published: 15-Apr-2002; DatasheetVersion: 9-Apr-1996; PackageVersion: 1995; PackageReference: 646-06; Publisher: Altium Limited; PackageDescription: DIP; 14 Leads; Row Spacing 7.62 mm; Pitch 2.54 mm; ComponentLink1Description: Manufacturer Link; ComponentLink1URL: http://www.onsemi.com/; ComponentLink2Description: Datasheet; ComponentLink2URL: http://www.onsemi.com/pub/Collateral/MC74AC08-D.PDF
footprint 646-06 (DIP; 14 Leads; Row Spacing 7.62 mm; Pitch 2.54 mm)
signal-integrity model MC74ACT08N
pins on every part: 7 GND (power) hidden to GND, 14 VDD (power) hidden to VDD
part A pins: 1 A (in), 2 B (in), 3 Y (out)
part B pins: 4 A (in), 5 B (in), 6 Y (out)
part C pins: 8 Y (out), 9 A (in), 10 B (in)
part D pins: 11 Y (out), 12 A (in), 13 B (in)

## MC74ACT10D
designator U?
Triple 3-Input NAND Gate; Published: 15-Apr-2002; LatestRevisionDate: 13-Apr-2006; LatestRevisionNote: IPC-7351 Footprint Added.; DatasheetVersion: 9-Apr-1996; PackageReference: 751A-03; Publisher: Altium Limited; PackageDescription: 14-Pin Small Outline Integrated Circuit 1.27 mm Pitch; Code_JEDEC: MS-012-AB; Code_IPC: SOIC127P600-14; ComponentLink1Description: Manufacturer Link; ComponentLink1URL: http://www.onsemi.com/; ComponentLink2Description: Datasheet; ComponentLink2URL: http://www.onsemi.com/pub/Collateral/MC74AC10-D.PDF
footprint 751A-03_N (SOIC, 14-Leads, Body 8.7x3.9mm, Pitch 1.27mm, IPC Medium Density)
footprint 751A-03_L (SOIC, 14-Leads, Body 8.7x3.9mm, Pitch 1.27mm, IPC High Density)
footprint 751A-03_M (SOIC, 14-Leads, Body 8.7x3.9mm, Pitch 1.27mm, IPC Low Density)
signal-integrity model MC74ACT10D
pins on every part: 7 GND (power) hidden to GND, 14 VDD (power) hidden to VDD
part A pins: 1 A (in), 2 B (in), 12 Y (out), 13 C (in)
part B pins: 3 A (in), 4 B (in), 5 C (in), 6 Y (out)
part C pins: 8 Y (out), 9 A (in), 10 B (in), 11 C (in)

## MC74ACT10N
designator U?
Triple 3-Input NAND Gate; Published: 15-Apr-2002; DatasheetVersion: 9-Apr-1996; PackageVersion: 1995; PackageReference: 646-06; Publisher: Altium Limited; PackageDescription: DIP; 14 Leads; Row Spacing 7.62 mm; Pitch 2.54 mm; ComponentLink1Description: Manufacturer Link; ComponentLink1URL: http://www.onsemi.com/; ComponentLink2Description: Datasheet; ComponentLink2URL: http://www.onsemi.com/pub/Collateral/MC74AC10-D.PDF
footprint 646-06 (DIP; 14 Leads; Row Spacing 7.62 mm; Pitch 2.54 mm)
signal-integrity model MC74ACT10N
pins on every part: 7 GND (power) hidden to GND, 14 VDD (power) hidden to VDD
part A pins: 1 A (in), 2 B (in), 12 Y (out), 13 C (in)
part B pins: 3 A (in), 4 B (in), 5 C (in), 6 Y (out)
part C pins: 8 Y (out), 9 A (in), 10 B (in), 11 C (in)

## MC74ACT11D
designator U?
Triple 3-Input AND Gate; Published: 15-Apr-2002; LatestRevisionDate: 13-Apr-2006; LatestRevisionNote: IPC-7351 Footprint Added.; DatasheetVersion: 9-Apr-1996; PackageReference: 751A-03; Publisher: Altium Limited; PackageDescription: 14-Pin Small Outline Integrated Circuit 1.27 mm Pitch; Code_JEDEC: MS-012-AB; Code_IPC: SOIC127P600-14; ComponentLink1Description: Manufacturer Link; ComponentLink1URL: http://www.onsemi.com/; ComponentLink2Description: Datasheet; ComponentLink2URL: http://www.onsemi.com/pub/Collateral/MC74AC11-D.PDF
footprint 751A-03_N (SOIC, 14-Leads, Body 8.7x3.9mm, Pitch 1.27mm, IPC Medium Density)
footprint 751A-03_L (SOIC, 14-Leads, Body 8.7x3.9mm, Pitch 1.27mm, IPC High Density)
footprint 751A-03_M (SOIC, 14-Leads, Body 8.7x3.9mm, Pitch 1.27mm, IPC Low Density)
signal-integrity model MC74ACT11D
pins on every part: 7 GND (power) hidden to GND, 14 VDD (power) hidden to VDD
part A pins: 1 A (in), 2 B (in), 12 Y (out), 13 C (in)
part B pins: 3 A (in), 4 B (in), 5 C (in), 6 Y (out)
part C pins: 8 Y (out), 9 A (in), 10 B (in), 11 C (in)

## MC74ACT11N
designator U?
Triple 3-Input AND Gate; Published: 15-Apr-2002; DatasheetVersion: 9-Apr-1996; PackageVersion: 1995; PackageReference: 646-06; Publisher: Altium Limited; PackageDescription: DIP; 14 Leads; Row Spacing 7.62 mm; Pitch 2.54 mm; ComponentLink1Description: Manufacturer Link; ComponentLink1URL: http://www.onsemi.com/; ComponentLink2Description: Datasheet; ComponentLink2URL: http://www.onsemi.com/pub/Collateral/MC74AC11-D.PDF
footprint 646-06 (DIP; 14 Leads; Row Spacing 7.62 mm; Pitch 2.54 mm)
signal-integrity model MC74ACT11N
pins on every part: 7 GND (power) hidden to GND, 14 VDD (power) hidden to VDD
part A pins: 1 A (in), 2 B (in), 12 Y (out), 13 C (in)
part B pins: 3 A (in), 4 B (in), 5 C (in), 6 Y (out)
part C pins: 8 Y (out), 9 A (in), 10 B (in), 11 C (in)

## MC74ACT20D
designator U?
Dual 4-Input NAND Gate; Note: Pins 3 & 11 are NC and not drawn; Published: 15-Apr-2002; LatestRevisionDate: 13-Apr-2006; LatestRevisionNote: IPC-7351 Footprint Added.; DatasheetVersion: 9-Apr-1996; PackageReference: 751A-03; Publisher: Altium Limited; PackageDescription: 14-Pin Small Outline Integrated Circuit 1.27 mm Pitch; Code_JEDEC: MS-012-AB; Code_IPC: SOIC127P600-14; ComponentLink1Description: Manufacturer Link; ComponentLink1URL: http://www.onsemi.com/; ComponentLink2Description: Datasheet; ComponentLink2URL: http://www.onsemi.com/pub/Collateral/MC74AC20-D.PDF
footprint 751A-03_N (SOIC, 14-Leads, Body 8.7x3.9mm, Pitch 1.27mm, IPC Medium Density)
footprint 751A-03_L (SOIC, 14-Leads, Body 8.7x3.9mm, Pitch 1.27mm, IPC High Density)
footprint 751A-03_M (SOIC, 14-Leads, Body 8.7x3.9mm, Pitch 1.27mm, IPC Low Density)
signal-integrity model MC74ACT20D
pins on every part: 7 GND (power) hidden to GND, 14 VCC (power) hidden to VCC
part A pins: 1 A (in), 2 B (in), 4 C (in), 5 D (in), 6 ~{O} (out)
part B pins: 8 ~{O} (out), 9 D (in), 10 C (in), 12 B (in), 13 A (in)

## MC74ACT20N
designator U?
Dual 4-Input NAND Gate; Note: Pins 3 & 11 are NC and not drawn; Published: 15-Apr-2002; DatasheetVersion: 9-Apr-1996; PackageVersion: 1995; PackageReference: 646-06; Publisher: Altium Limited; PackageDescription: DIP; 14 Leads; Row Spacing 7.62 mm; Pitch 2.54 mm; ComponentLink1Description: Manufacturer Link; ComponentLink1URL: http://www.onsemi.com/; ComponentLink2Description: Datasheet; ComponentLink2URL: http://www.onsemi.com/pub/Collateral/MC74AC20-D.PDF
footprint 646-06 (DIP; 14 Leads; Row Spacing 7.62 mm; Pitch 2.54 mm)
signal-integrity model MC74ACT20N
pins on every part: 7 GND (power) hidden to GND, 14 VCC (power) hidden to VCC
part A pins: 1 A (in), 2 B (in), 4 C (in), 5 D (in), 6 ~{O} (out)
part B pins: 8 ~{O} (out), 9 D (in), 10 C (in), 12 B (in), 13 A (in)

## MC74ACT32D
designator U?
Quad 2-Input OR Gate with TTL Compatible Inputs; Published: 15-Apr-2002; LatestRevisionDate: 13-Apr-2006; LatestRevisionNote: IPC-7351 Footprint Added.; DatasheetVersion: 9-Apr-1996; PackageReference: 751A-03; Publisher: Altium Limited; PackageDescription: 14-Pin Small Outline Integrated Circuit 1.27 mm Pitch; Code_JEDEC: MS-012-AB; Code_IPC: SOIC127P600-14; ComponentLink1Description: Manufacturer Link; ComponentLink1URL: http://www.onsemi.com/; ComponentLink2Description: Datasheet; ComponentLink2URL: http://www.onsemi.com/pub/Collateral/MC74AC32-D.PDF
footprint 751A-03_N (SOIC, 14-Leads, Body 8.7x3.9mm, Pitch 1.27mm, IPC Medium Density)
footprint 751A-03_L (SOIC, 14-Leads, Body 8.7x3.9mm, Pitch 1.27mm, IPC High Density)
footprint 751A-03_M (SOIC, 14-Leads, Body 8.7x3.9mm, Pitch 1.27mm, IPC Low Density)
signal-integrity model MC74ACT32D
pins on every part: 7 GND (power) hidden to GND, 14 VDD (power) hidden to VDD
part A pins: 1 A (in), 2 B (in), 3 Y (out)
part B pins: 4 A (in), 5 B (in), 6 Y (out)
part C pins: 8 Y (out), 9 A (in), 10 B (in)
part D pins: 11 Y (out), 12 A (in), 13 B (in)

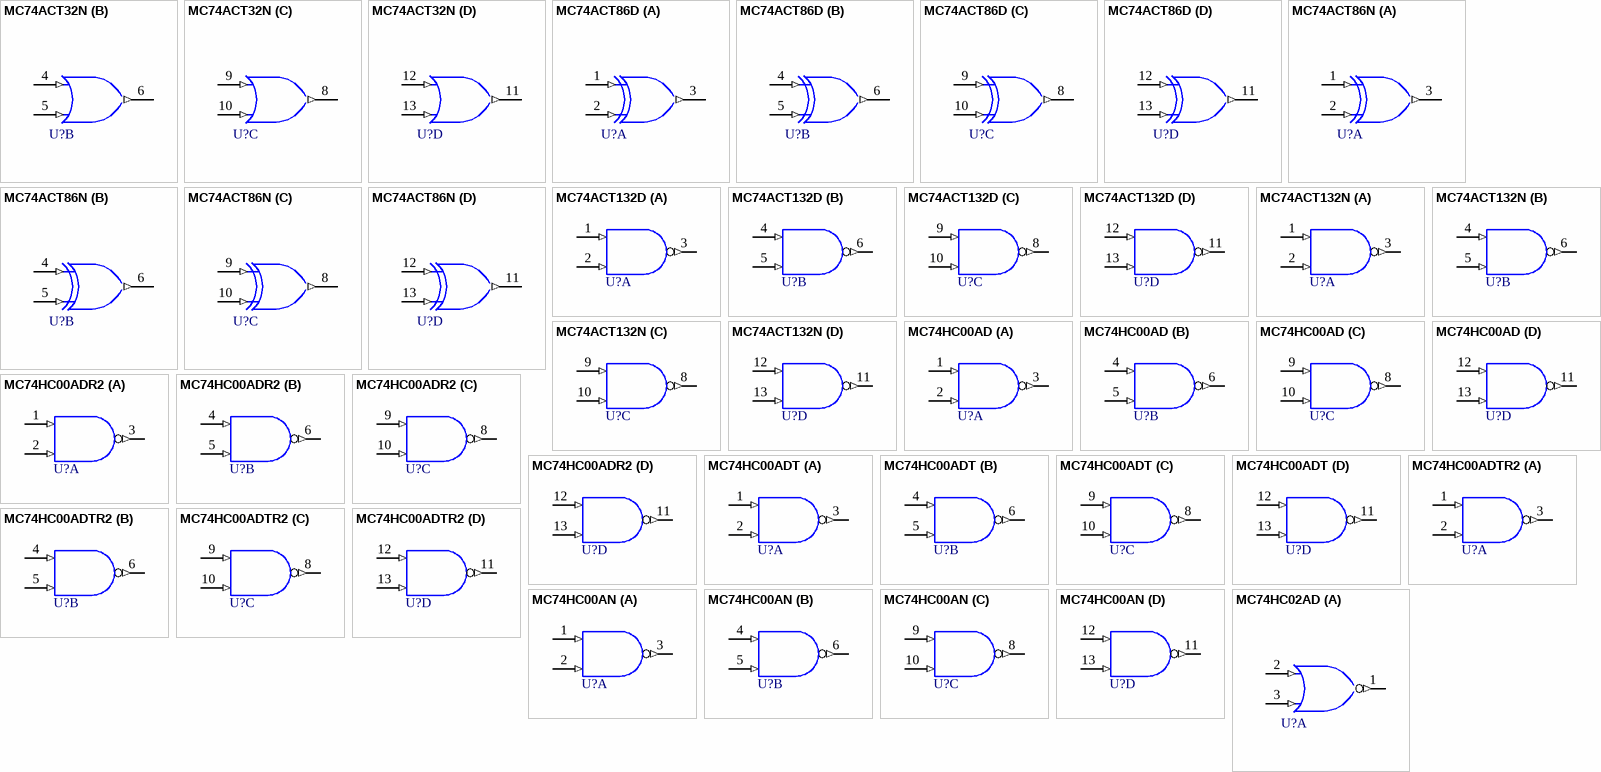
[diagram p6: symbols MC74ACT32N to MC74HC02AD]

## MC74ACT32N
designator U?
Quad 2-Input OR Gate with TTL Compatible Inputs; Published: 15-Apr-2002; DatasheetVersion: 9-Apr-1996; PackageVersion: 1995; PackageReference: 646-06; Publisher: Altium Limited; PackageDescription: DIP; 14 Leads; Row Spacing 7.62 mm; Pitch 2.54 mm; ComponentLink1Description: Manufacturer Link; ComponentLink1URL: http://www.onsemi.com/; ComponentLink2Description: Datasheet; ComponentLink2URL: http://www.onsemi.com/pub/Collateral/MC74AC32-D.PDF
footprint 646-06 (DIP; 14 Leads; Row Spacing 7.62 mm; Pitch 2.54 mm)
signal-integrity model MC74ACT32N
pins on every part: 7 GND (power) hidden to GND, 14 VDD (power) hidden to VDD
part A pins: 1 A (in), 2 B (in), 3 Y (out)
part B pins: 4 A (in), 5 B (in), 6 Y (out)
part C pins: 8 Y (out), 9 A (in), 10 B (in)
part D pins: 11 Y (out), 12 A (in), 13 B (in)

## MC74ACT86D
designator U?
Quad 2-Input XOR Gate; Published: 15-Apr-2002; LatestRevisionDate: 13-Apr-2006; LatestRevisionNote: IPC-7351 Footprint Added.; DatasheetVersion: 9-Apr-1996; PackageReference: 751A-03; Publisher: Altium Limited; PackageDescription: 14-Pin Small Outline Integrated Circuit 1.27 mm Pitch; Code_JEDEC: MS-012-AB; Code_IPC: SOIC127P600-14; ComponentLink1Description: Manufacturer Link; ComponentLink1URL: http://www.onsemi.com/; ComponentLink2Description: Datasheet; ComponentLink2URL: http://www.onsemi.com/pub/Collateral/MC74AC86-D.PDF
footprint 751A-03_N (SOIC, 14-Leads, Body 8.7x3.9mm, Pitch 1.27mm, IPC Medium Density)
footprint 751A-03_L (SOIC, 14-Leads, Body 8.7x3.9mm, Pitch 1.27mm, IPC High Density)
footprint 751A-03_M (SOIC, 14-Leads, Body 8.7x3.9mm, Pitch 1.27mm, IPC Low Density)
signal-integrity model MC74ACT86D
pins on every part: 7 GND (power) hidden to GND, 14 VDD (power) hidden to VDD
part A pins: 1 A (in), 2 B (in), 3 Y (out)
part B pins: 4 A (in), 5 B (in), 6 Y (out)
part C pins: 8 Y (out), 9 A (in), 10 B (in)
part D pins: 11 Y (out), 12 A (in), 13 B (in)

## MC74ACT86N
designator U?
Quad 2-Input XOR Gate; Published: 15-Apr-2002; DatasheetVersion: 9-Apr-1996; PackageVersion: 1995; PackageReference: 646-06; Publisher: Altium Limited; PackageDescription: DIP; 14 Leads; Row Spacing 7.62 mm; Pitch 2.54 mm; ComponentLink1Description: Manufacturer Link; ComponentLink1URL: http://www.onsemi.com/; ComponentLink2Description: Datasheet; ComponentLink2URL: http://www.onsemi.com/pub/Collateral/MC74AC86-D.PDF
footprint 646-06 (DIP; 14 Leads; Row Spacing 7.62 mm; Pitch 2.54 mm)
signal-integrity model MC74ACT86N
pins on every part: 7 GND (power) hidden to GND, 14 VDD (power) hidden to VDD
part A pins: 1 A (in), 2 B (in), 3 Y (out)
part B pins: 4 A (in), 5 B (in), 6 Y (out)
part C pins: 8 Y (out), 9 A (in), 10 B (in)
part D pins: 11 Y (out), 12 A (in), 13 B (in)

## MC74ACT132D
designator U?
Quad 2-Input NAND Schmitt Trigger; Published: 15-Apr-2002; LatestRevisionDate: 13-Apr-2006; LatestRevisionNote: IPC-7351 Footprint Added.; DatasheetVersion: 9-Apr-1996; PackageReference: 751A-03; Publisher: Altium Limited; PackageDescription: 14-Pin Small Outline Integrated Circuit 1.27 mm Pitch; Code_JEDEC: MS-012-AB; Code_IPC: SOIC127P600-14; ComponentLink1Description: Manufacturer Link; ComponentLink1URL: http://www.onsemi.com/; ComponentLink2Description: Datasheet; ComponentLink2URL: http://www.onsemi.com/pub/Collateral/MC74AC132-D.PDF
footprint 751A-03_N (SOIC, 14-Leads, Body 8.7x3.9mm, Pitch 1.27mm, IPC Medium Density)
footprint 751A-03_L (SOIC, 14-Leads, Body 8.7x3.9mm, Pitch 1.27mm, IPC High Density)
footprint 751A-03_M (SOIC, 14-Leads, Body 8.7x3.9mm, Pitch 1.27mm, IPC Low Density)
signal-integrity model MC74ACT132D
pins on every part: 7 GND (power) hidden to GND, 14 VDD (power) hidden to VDD
part A pins: 1 A (in), 2 B (in), 3 Y (out)
part B pins: 4 A (in), 5 B (in), 6 Y (out)
part C pins: 8 Y (out), 9 A (in), 10 B (in)
part D pins: 11 Y (out), 12 A (in), 13 B (in)

## MC74ACT132N
designator U?
Quad 2-Input NAND Schmitt Trigger; Published: 15-Apr-2002; DatasheetVersion: 9-Apr-1996; PackageVersion: 1995; PackageReference: 646-06; Publisher: Altium Limited; PackageDescription: DIP; 14 Leads; Row Spacing 7.62 mm; Pitch 2.54 mm; ComponentLink1Description: Manufacturer Link; ComponentLink1URL: http://www.onsemi.com/; ComponentLink2Description: Datasheet; ComponentLink2URL: http://www.onsemi.com/pub/Collateral/MC74AC132-D.PDF
footprint 646-06 (DIP; 14 Leads; Row Spacing 7.62 mm; Pitch 2.54 mm)
signal-integrity model MC74ACT132N
pins on every part: 7 GND (power) hidden to GND, 14 VDD (power) hidden to VDD
part A pins: 1 A (in), 2 B (in), 3 Y (out)
part B pins: 4 A (in), 5 B (in), 6 Y (out)
part C pins: 8 Y (out), 9 A (in), 10 B (in)
part D pins: 11 Y (out), 12 A (in), 13 B (in)

## MC74HC00AD
designator U?
Quad 2-Input NAND Gate; Published: 15-Apr-2002; LatestRevisionDate: 13-Apr-2006; LatestRevisionNote: IPC-7351 Footprint Added.; DatasheetVersion: Mar-2000; PackageReference: 751A-03; Publisher: Altium Limited; PackageDescription: 14-Pin Small Outline Integrated Circuit 1.27 mm Pitch; Code_JEDEC: MS-012-AB; Code_IPC: SOIC127P600-14; ComponentLink1Description: Manufacturer Link; ComponentLink1URL: http://www.onsemi.com/; ComponentLink2Description: Datasheet; ComponentLink2URL: http://www.onsemi.com/pub/Collateral/MC74HC00A-D.PDF
footprint 751A-03_N (SOIC, 14-Leads, Body 8.7x3.9mm, Pitch 1.27mm, IPC Medium Density)
footprint 751A-03_L (SOIC, 14-Leads, Body 8.7x3.9mm, Pitch 1.27mm, IPC High Density)
footprint 751A-03_M (SOIC, 14-Leads, Body 8.7x3.9mm, Pitch 1.27mm, IPC Low Density)
signal-integrity model MC74HC00AD
pins on every part: 7 GND (power) hidden to GND, 14 VCC (power) hidden to VCC
part A pins: 1 A (in), 2 B (in), 3 ~{Y} (out)
part B pins: 4 A (in), 5 B (in), 6 ~{Y} (out)
part C pins: 8 ~{Y} (out), 9 A (in), 10 B (in)
part D pins: 11 ~{Y} (out), 12 A (in), 13 B (in)

## MC74HC00ADR2
designator U?
Quad 2-Input NAND Gate; Published: 15-Apr-2002; LatestRevisionDate: 13-Apr-2006; LatestRevisionNote: IPC-7351 Footprint Added.; DatasheetVersion: Mar-2000; PackageReference: 751A-03; Publisher: Altium Limited; PackageDescription: 14-Pin Small Outline Integrated Circuit 1.27 mm Pitch; Code_JEDEC: MS-012-AB; Code_IPC: SOIC127P600-14; ComponentLink1Description: Manufacturer Link; ComponentLink1URL: http://www.onsemi.com/; ComponentLink2Description: Datasheet; ComponentLink2URL: http://www.onsemi.com/pub/Collateral/MC74HC00A-D.PDF
footprint 751A-03_N (SOIC, 14-Leads, Body 8.7x3.9mm, Pitch 1.27mm, IPC Medium Density)
footprint 751A-03_L (SOIC, 14-Leads, Body 8.7x3.9mm, Pitch 1.27mm, IPC High Density)
footprint 751A-03_M (SOIC, 14-Leads, Body 8.7x3.9mm, Pitch 1.27mm, IPC Low Density)
signal-integrity model MC74HC00ADR2
pins on every part: 7 GND (power) hidden to GND, 14 VCC (power) hidden to VCC
part A pins: 1 A (in), 2 B (in), 3 ~{Y} (out)
part B pins: 4 A (in), 5 B (in), 6 ~{Y} (out)
part C pins: 8 ~{Y} (out), 9 A (in), 10 B (in)
part D pins: 11 ~{Y} (out), 12 A (in), 13 B (in)

## MC74HC00ADT
designator U?
Quad 2-Input NAND Gate; ComponentAvailability: Not for New Design; Published: 15-Apr-2002; LatestRevisionDate: 12-Dec-2006; LatestRevisionNote: IPC-7351 Footprint Added.; DatasheetVersion: Mar-2000; PackageVersion: 1998; PackageReference: 948G-01; Publisher: Altium Limited; PackageDescription: 14-Pin Thin Small Outline Package 0.65 mm Pitch; ComponentLink1Description: Manufacturer Link; ComponentLink1URL: http://www.onsemi.com/; ComponentLink2Description: Datasheet; ComponentLink2URL: http://www.onsemi.com/pub/Collateral/MC74HC00A-D.PDF
footprint 948G-01_N (TSOP, 14-Leads, Body 5x4.4mm, Pitch 0.65mm, IPC Medium Density)
footprint 948G-01_L (TSOP, 14-Leads, Body 5x4.4mm, Pitch 0.65mm, IPC High Density)
footprint 948G-01_M (TSOP, 14-Leads, Body 5x4.4mm, Pitch 0.65mm, IPC Low Density)
signal-integrity model MC74HC00ADT
pins on every part: 7 GND (power) hidden to GND, 14 VCC (power) hidden to VCC
part A pins: 1 A (in), 2 B (in), 3 ~{Y} (out)
part B pins: 4 A (in), 5 B (in), 6 ~{Y} (out)
part C pins: 8 ~{Y} (out), 9 A (in), 10 B (in)
part D pins: 11 ~{Y} (out), 12 A (in), 13 B (in)

## MC74HC00ADTR2
designator U?
Quad 2-Input NAND Gate; Published: 15-Apr-2002; LatestRevisionDate: 12-Dec-2006; LatestRevisionNote: IPC-7351 Footprint Added.; DatasheetVersion: Mar-2000; PackageVersion: 1998; PackageReference: 948G-01; Publisher: Altium Limited; PackageDescription: 14-Pin Thin Small Outline Package 0.65 mm Pitch; ComponentLink1Description: Manufacturer Link; ComponentLink1URL: http://www.onsemi.com/; ComponentLink2Description: Datasheet; ComponentLink2URL: http://www.onsemi.com/pub/Collateral/MC74HC00A-D.PDF
footprint 948G-01_N (TSOP, 14-Leads, Body 5x4.4mm, Pitch 0.65mm, IPC Medium Density)
footprint 948G-01_L (TSOP, 14-Leads, Body 5x4.4mm, Pitch 0.65mm, IPC High Density)
footprint 948G-01_M (TSOP, 14-Leads, Body 5x4.4mm, Pitch 0.65mm, IPC Low Density)
signal-integrity model MC74HC00ADTR2
pins on every part: 7 GND (power) hidden to GND, 14 VCC (power) hidden to VCC
part A pins: 1 A (in), 2 B (in), 3 ~{Y} (out)
part B pins: 4 A (in), 5 B (in), 6 ~{Y} (out)
part C pins: 8 ~{Y} (out), 9 A (in), 10 B (in)
part D pins: 11 ~{Y} (out), 12 A (in), 13 B (in)

## MC74HC00AN
designator U?
Quad 2-Input NAND Gate; Published: 15-Apr-2002; DatasheetVersion: Mar-2000; PackageVersion: 1995; PackageReference: 646-06; Publisher: Altium Limited; PackageDescription: DIP; 14 Leads; Row Spacing 7.62 mm; Pitch 2.54 mm; ComponentLink1Description: Manufacturer Link; ComponentLink1URL: http://www.onsemi.com/; ComponentLink2Description: Datasheet; ComponentLink2URL: http://www.onsemi.com/pub/Collateral/MC74HC00A-D.PDF
footprint 646-06 (DIP; 14 Leads; Row Spacing 7.62 mm; Pitch 2.54 mm)
signal-integrity model MC74HC00AN
pins on every part: 7 GND (power) hidden to GND, 14 VCC (power) hidden to VCC
part A pins: 1 A (in), 2 B (in), 3 ~{Y} (out)
part B pins: 4 A (in), 5 B (in), 6 ~{Y} (out)
part C pins: 8 ~{Y} (out), 9 A (in), 10 B (in)
part D pins: 11 ~{Y} (out), 12 A (in), 13 B (in)

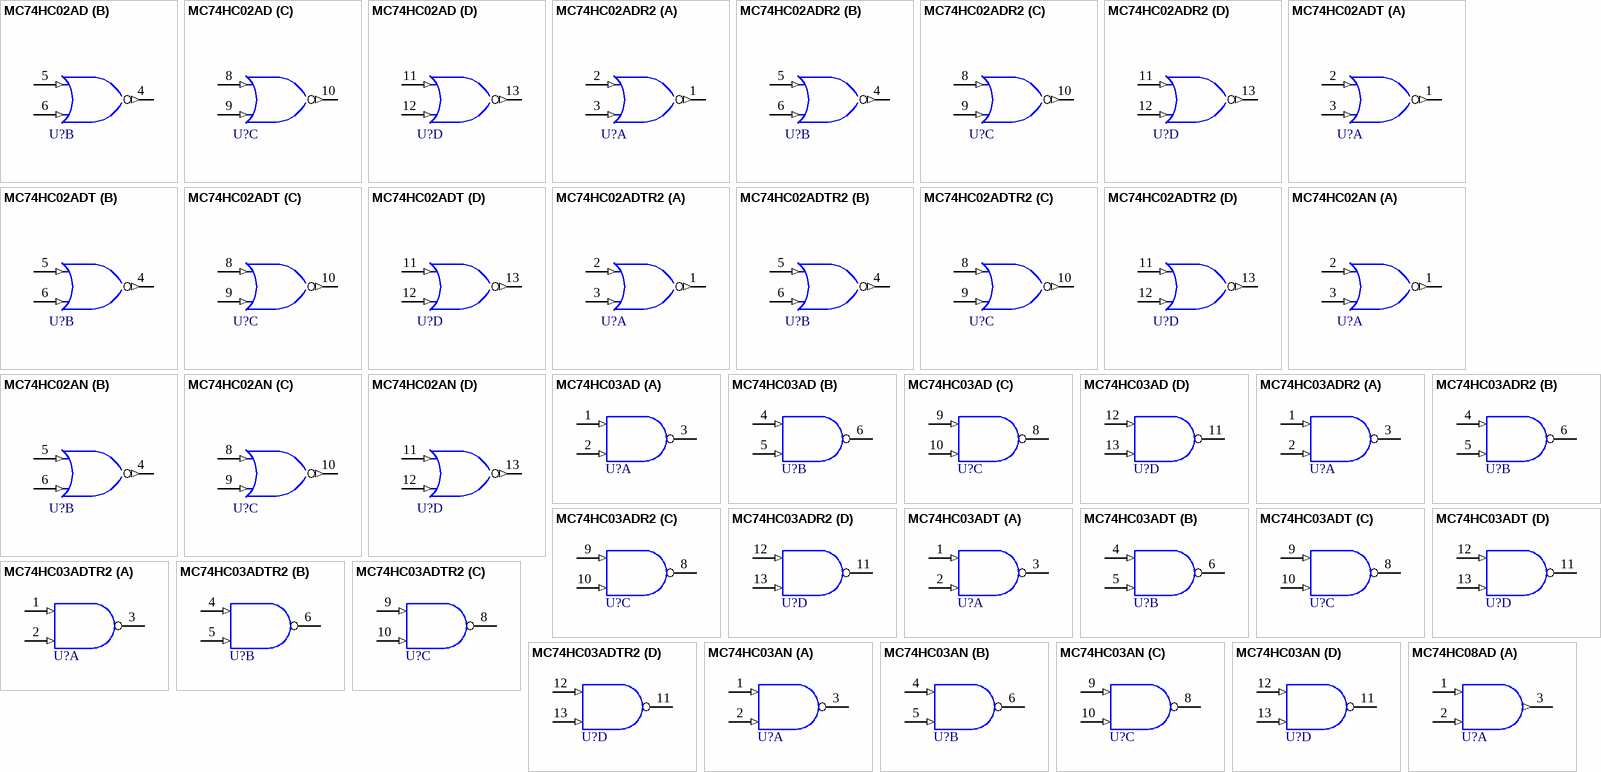
[diagram p7: symbols MC74HC02AD to MC74HC08AD]

## MC74HC02AD
designator U?
Quad 2-Input NOR Gate; Published: 15-Apr-2002; LatestRevisionDate: 13-Apr-2006; LatestRevisionNote: IPC-7351 Footprint Added.; DatasheetVersion: Mar-2000; PackageReference: 751A-03; Publisher: Altium Limited; PackageDescription: 14-Pin Small Outline Integrated Circuit 1.27 mm Pitch; Code_JEDEC: MS-012-AB; Code_IPC: SOIC127P600-14; ComponentLink1Description: Manufacturer Link; ComponentLink1URL: http://www.onsemi.com/; ComponentLink2Description: Datasheet; ComponentLink2URL: http://www.onsemi.com/pub/Collateral/MC74HC02A-D.PDF
footprint 751A-03_N (SOIC, 14-Leads, Body 8.7x3.9mm, Pitch 1.27mm, IPC Medium Density)
footprint 751A-03_L (SOIC, 14-Leads, Body 8.7x3.9mm, Pitch 1.27mm, IPC High Density)
footprint 751A-03_M (SOIC, 14-Leads, Body 8.7x3.9mm, Pitch 1.27mm, IPC Low Density)
signal-integrity model MC74HC02AD
pins on every part: 7 GND (power) hidden to GND, 14 VCC (power) hidden to VCC
part A pins: 1 ~{Y} (out), 2 A (in), 3 B (in)
part B pins: 4 ~{Y} (out), 5 A (in), 6 B (in)
part C pins: 8 A (in), 9 B (in), 10 ~{Y} (out)
part D pins: 11 A (in), 12 B (in), 13 ~{Y} (out)

## MC74HC02ADR2
designator U?
Quad 2-Input NOR Gate; Published: 15-Apr-2002; LatestRevisionDate: 13-Apr-2006; LatestRevisionNote: IPC-7351 Footprint Added.; DatasheetVersion: Mar-2000; PackageReference: 751A-03; Publisher: Altium Limited; PackageDescription: 14-Pin Small Outline Integrated Circuit 1.27 mm Pitch; Code_JEDEC: MS-012-AB; Code_IPC: SOIC127P600-14; ComponentLink1Description: Manufacturer Link; ComponentLink1URL: http://www.onsemi.com/; ComponentLink2Description: Datasheet; ComponentLink2URL: http://www.onsemi.com/pub/Collateral/MC74HC02A-D.PDF
footprint 751A-03_N (SOIC, 14-Leads, Body 8.7x3.9mm, Pitch 1.27mm, IPC Medium Density)
footprint 751A-03_L (SOIC, 14-Leads, Body 8.7x3.9mm, Pitch 1.27mm, IPC High Density)
footprint 751A-03_M (SOIC, 14-Leads, Body 8.7x3.9mm, Pitch 1.27mm, IPC Low Density)
signal-integrity model MC74HC02ADR2
pins on every part: 7 GND (power) hidden to GND, 14 VCC (power) hidden to VCC
part A pins: 1 ~{Y} (out), 2 A (in), 3 B (in)
part B pins: 4 ~{Y} (out), 5 A (in), 6 B (in)
part C pins: 8 A (in), 9 B (in), 10 ~{Y} (out)
part D pins: 11 A (in), 12 B (in), 13 ~{Y} (out)

## MC74HC02ADT
designator U?
Quad 2-Input NOR Gate; ComponentAvailability: Not for New Design; Published: 15-Apr-2002; LatestRevisionDate: 12-Dec-2006; LatestRevisionNote: IPC-7351 Footprint Added.; DatasheetVersion: Mar-2000; PackageVersion: 1998; PackageReference: 948G-01; Publisher: Altium Limited; PackageDescription: 14-Pin Thin Small Outline Package 0.65 mm Pitch; ComponentLink1Description: Manufacturer Link; ComponentLink1URL: http://www.onsemi.com/; ComponentLink2Description: Datasheet; ComponentLink2URL: http://www.onsemi.com/pub/Collateral/MC74HC02A-D.PDF
footprint 948G-01_N (TSOP, 14-Leads, Body 5x4.4mm, Pitch 0.65mm, IPC Medium Density)
footprint 948G-01_L (TSOP, 14-Leads, Body 5x4.4mm, Pitch 0.65mm, IPC High Density)
footprint 948G-01_M (TSOP, 14-Leads, Body 5x4.4mm, Pitch 0.65mm, IPC Low Density)
signal-integrity model MC74HC02ADT
pins on every part: 7 GND (power) hidden to GND, 14 VCC (power) hidden to VCC
part A pins: 1 ~{Y} (out), 2 A (in), 3 B (in)
part B pins: 4 ~{Y} (out), 5 A (in), 6 B (in)
part C pins: 8 A (in), 9 B (in), 10 ~{Y} (out)
part D pins: 11 A (in), 12 B (in), 13 ~{Y} (out)